# EAGLE library part AUDIOAMP (library CLASS D AUDIO AMP)
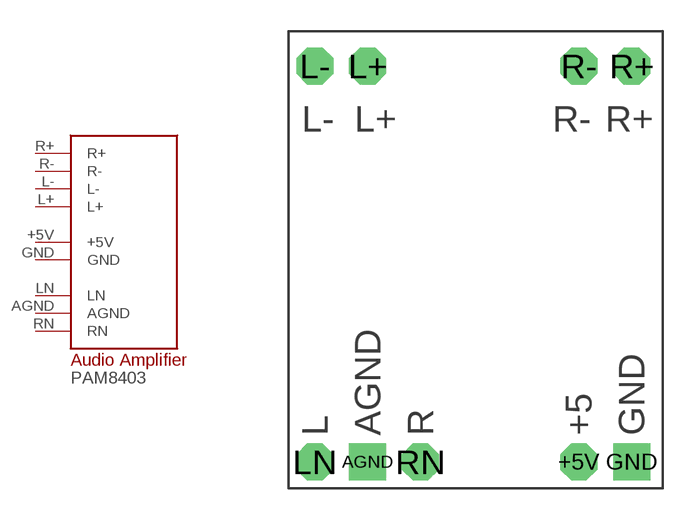
[diagram p0: symbol with the pads of AUDIOAMP; footprint AUDIOAMP]

Designator prefix -

## AUDIOAMPEBAY_VERSION  [AUDIOAMP]
+5V  +5V  pwr
AGND  AGND
GND  GND  pwr
L+  L+
L-  L-
LN  LN
R+  R+
R-  R-
RN  RN

## Footprint AUDIOAMP (pad centres in mm)
drill 1.016 pad 1.778 octagon: +5V 13.97,1.27; L+ 3.81,20.32; L- 1.27,20.32; LN 1.27,1.27; R+ 16.51,20.32; R- 13.97,20.32; RN 6.35,1.27
drill 1.016 pad 1.778 square: AGND 3.81,1.27; GND 16.51,1.27